# EAGLE library part S70FL01GSAGMFI011 (library flash)
S70FL01 1Gb Flash Memory SPI 2x512Mb
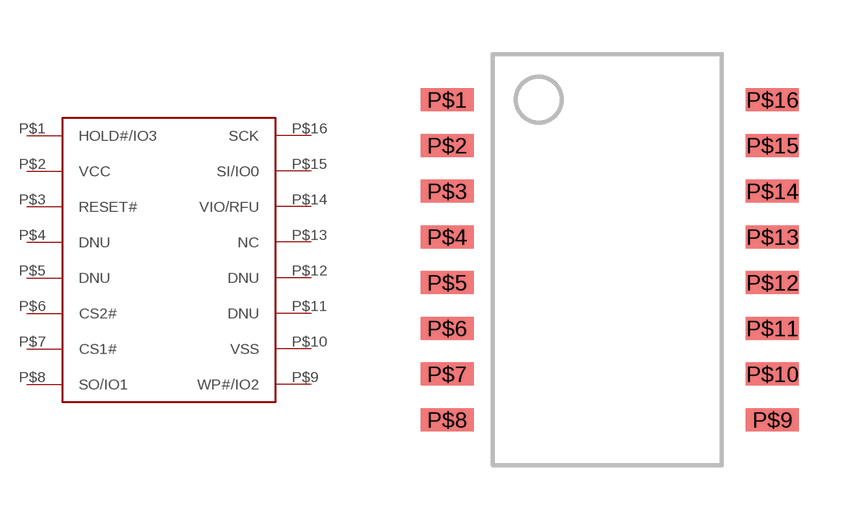
[diagram p0: symbol with the pads of SOP-16; footprint SOP-16]

Designator prefix -

## S70FL01GSAGMFI011  [SOP-16]
P$1  HOLD#/IO3
P$2  VCC
P$3  RESET#
P$4  DNU
P$5  DNU
P$6  CS2#
P$7  CS1#
P$8  SO/IO1
P$9  WP#/IO2
P$10  VSS
P$11  DNU
P$12  DNU
P$13  NC
P$14  VIO/RFU
P$15  SI/IO0
P$16  SCK

## Footprint SOP-16 (pad centres in mm)
SOP-16 Recommended for S70FL01
smd 1.47 x 0.635: P$1 -4.445,4.445; P$2 -4.445,3.175; P$3 -4.445,1.905; P$4 -4.445,0.635; P$5 -4.445,-0.635; P$6 -4.445,-1.905; P$7 -4.445,-3.175; P$8 -4.445,-4.445; P$9 4.585,-4.445; P$10 4.585,-3.175; P$11 4.585,-1.905; P$12 4.585,-0.635; P$13 4.585,0.635; P$14 4.585,1.905; P$15 4.585,3.175; P$16 4.585,4.445